# Altium footprint library RD3399-20181026.PcbLib: 57 footprints (part 3 of 4)
Each footprint in its own frame and in the unit in brackets; x right, y up, seen from the top. Pads: shape width x height; smd on the part's side, far side on the other; paste and mask are expansions set on the pad; w line width, h text height; cw(c..) or ccw(c..) is an arc to the next point about the centre after c.
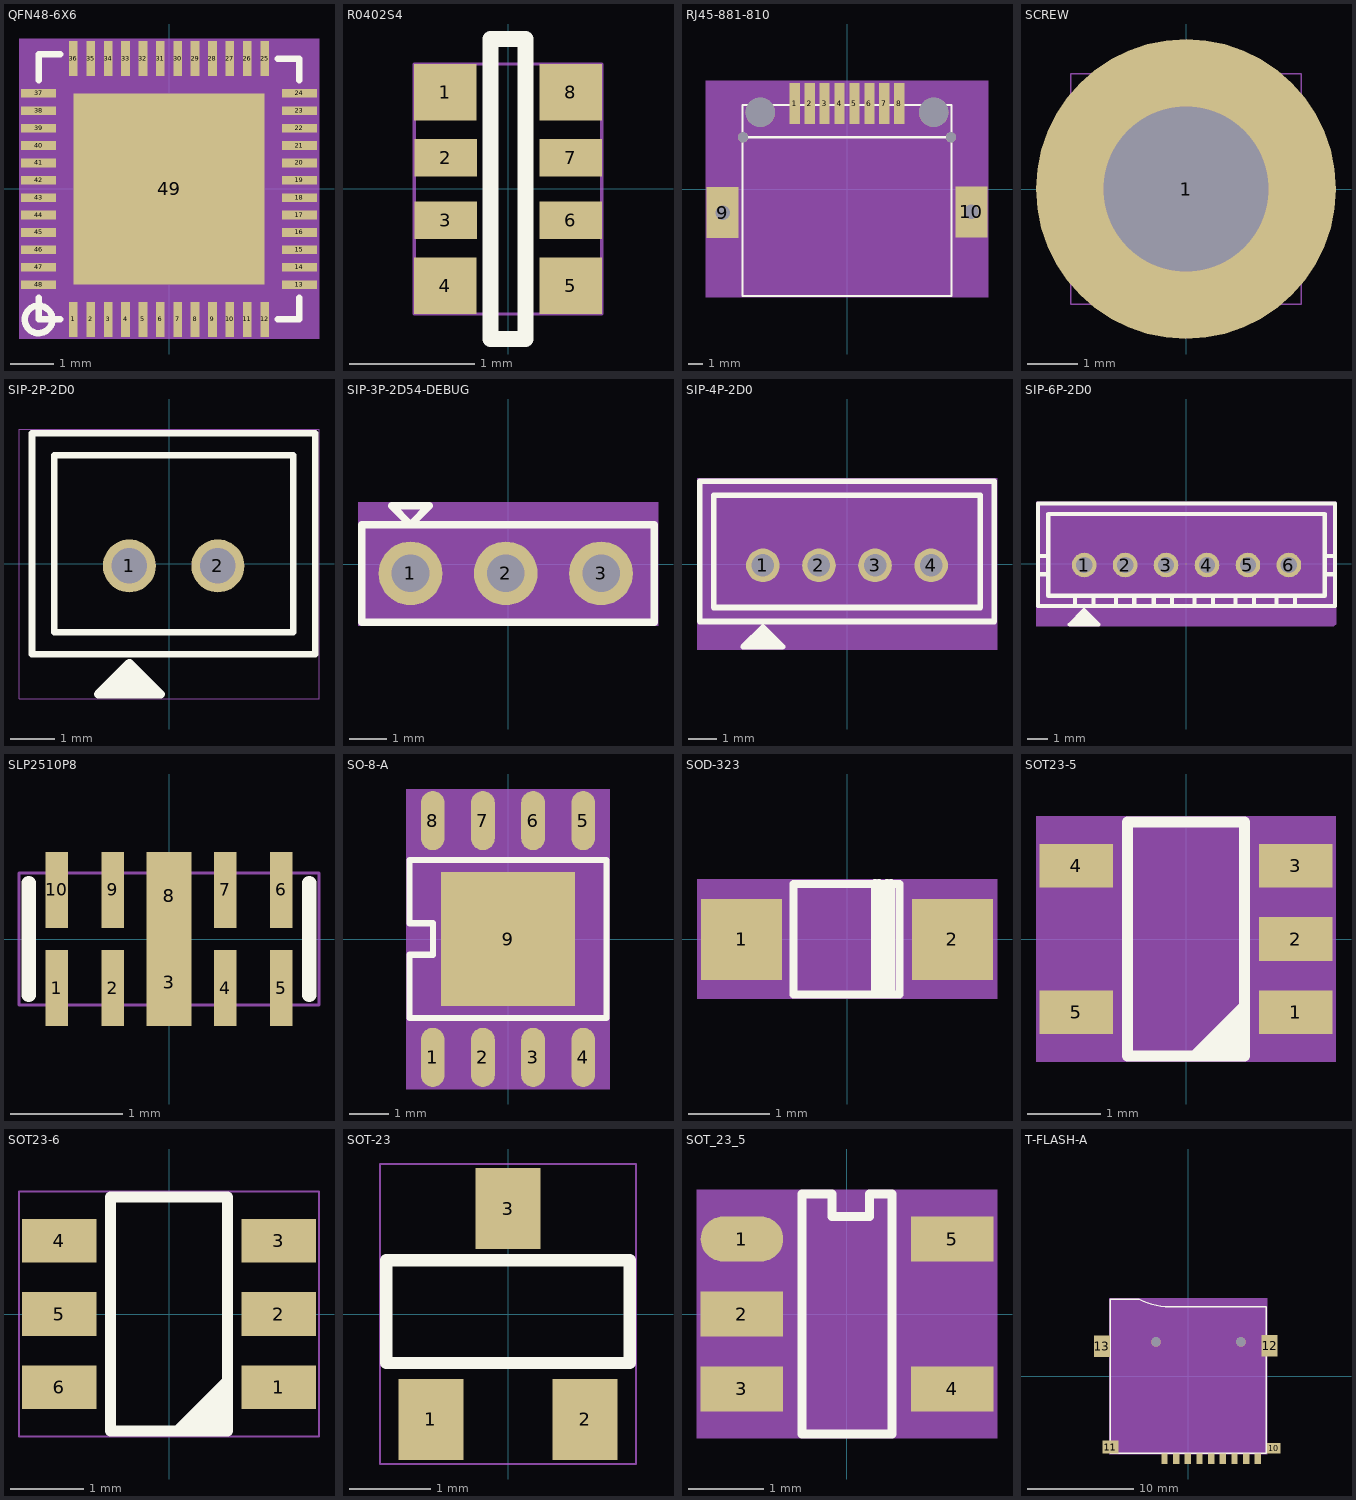
[diagram p2: the footprints below, top view; thin cyan lines are the x and y axes]

## QFN48-6X6 [mm] "QFN48-6X6"
pads (49):
  rect 0.2x0.8 smd: 1(-2.2,-3) 2(-1.8,-3) 3(-1.4,-3) 4(-1,-3) 5(-0.6,-3) 6(-0.2,-3) 7(0.2,-3) 8(0.6,-3) 9(1,-3) 10(1.4,-3) 11(1.8,-3) 12(2.2,-3) 25(2.2,3) 26(1.8,3) 27(1.4,3) 28(1,3) 29(0.6,3) 30(0.2,3) 31(-0.2,3) 32(-0.6,3) 33(-1,3) 34(-1.4,3) 35(-1.8,3) 36(-2.2,3)
  rect 0.8x0.2 smd: 13(3,-2.2) 14(3,-1.8) 15(3,-1.4) 16(3,-1) 17(3,-0.6) 18(3,-0.2) 19(3,0.2) 20(3,0.6) 21(3,1) 22(3,1.4) 23(3,1.8) 24(3,2.2) 37(-3,2.2) 38(-3,1.8) 39(-3,1.4) 40(-3,1) 41(-3,0.6) 42(-3,0.2) 43(-3,-0.2) 44(-3,-0.6) 45(-3,-1) 46(-3,-1.4) 47(-3,-1.8) 48(-3,-2.2)
  rect 4.4x4.4 smd: 49(0,0)
Top Overlay:
  circle w0.15: c-3,-3 r0.316
  lines w0.15: -3,-2.5 -3,-3 -2.5,-3 ; -3,2.5 -3,3.1 -2.5,3.1 ; 2.5,-3 3,-3 3,-2.5 ; 2.5,3 3,3 3,2.5
  text ".Designator" at 4.1,0.975 h0.8
Mechanical 7:
  text "47" at -2.492,-1.8 h0.64
  text "49" at 0.508,0 h0.64
  text "27" at 1.908,3 h0.64
  text "22" at 3.508,1.4 h0.64
  text "23" at 3.508,1.8 h0.64
  text "31" at 0.308,3 h0.64
  text "30" at 0.708,3 h0.64
  text "24" at 3.508,2.2 h0.64
  text "25" at 2.708,3 h0.64
  text "26" at 2.308,3 h0.64
  text "44" at -2.492,-0.6 h0.64
  text "45" at -2.492,-1 h0.64
  text "41" at -2.492,0.6 h0.64
  text "6" at 0.054,-3 h0.64
  text "15" at 3.508,-1.4 h0.64
  text "21" at 3.508,1 h0.64
  text "37" at -2.492,2.2 h0.64
  text "18" at 3.508,-0.2 h0.64
  text "11" at 2.308,-3 h0.64
  text "1" at -1.946,-3 h0.64
  text "35" at -1.292,3 h0.64
  text "3" at -1.146,-3 h0.64
  text "9" at 1.254,-3 h0.64
  text "36" at -1.692,3 h0.64
  text "28" at 1.508,3 h0.64
  text "40" at -2.492,1 h0.64
  text "17" at 3.508,-0.6 h0.64
  text "7" at 0.454,-3 h0.64
  text "34" at -0.892,3 h0.64
  text "13" at 3.508,-2.2 h0.64
  text "20" at 3.508,0.6 h0.64
  text "42" at -2.492,0.2 h0.64
  text "4" at -0.746,-3 h0.64
  text "10" at 1.908,-3 h0.64
  text "14" at 3.508,-1.8 h0.64
  text "43" at -2.492,-0.2 h0.64
  text "5" at -0.346,-3 h0.64
  text "8" at 0.854,-3 h0.64
  text "19" at 3.508,0.2 h0.64
  text "39" at -2.492,1.4 h0.64
  text "33" at -0.492,3 h0.64
  text "29" at 1.108,3 h0.64
  text "32" at -0.092,3 h0.64
  text "48" at -2.492,-2.2 h0.64
  text "16" at 3.508,-1 h0.64
  text "2" at -1.546,-3 h0.64
  text "38" at -2.492,1.8 h0.64
  text "46" at -2.492,-1.4 h0.64
  text "12" at 2.708,-3 h0.64
Mechanical 8:
  region: -3.45,-3.45 3.45,-3.45 3.45,3.45 -3.45,3.45
Mechanical 9:
  text "RTL8211E-VB-CG" at 0,0 h1.27

## R0402S4 [mm] "R0402S4"
pads (8):
  rect 0.5x0.45 smd: 1(-0.5,0.775) 4(-0.5,-0.775) 5(0.5,-0.775) 8(0.5,0.775)
  rect 0.5x0.3 smd: 2(-0.5,0.25) 3(-0.5,-0.25) 6(0.5,-0.25) 7(0.5,0.25)
Top Overlay:
  lines w0.127: -0.14,-1.2 -0.14,1.2 0.14,1.2 0.14,-1.2 -0.14,-1.2
  text ".Designator" at 2.15,-1.325 h0.8
Mechanical 7:
  text "1" at -0.754,0.775 h0.64
  text "2" at -0.754,0.25 h0.64
  text "3" at -0.754,-0.25 h0.64
  text "4" at -0.754,-0.775 h0.64
  text "7" at 0.246,0.25 h0.64
  text "6" at 0.246,-0.25 h0.64
  text "5" at 0.246,-0.775 h0.64
  text "8" at 0.246,0.775 h0.64
Mechanical 8:
  lines w0.025: -0.75,-1 -0.75,1 0.75,1 0.75,-1 -0.75,-1
Mechanical 9:
  lines w0.025: -0.75,-1 -0.75,1 0.75,1 0.75,-1 -0.75,-1
  text "22R_RN" at 0,0 h1.27

## RJ45-881-810 [mm] "RJ45-881-810"
pads (14):
  rect 0.7x2.8 smd: 1(-3.57,5.838) 2(-2.55,5.838) 3(-1.53,5.838) 4(-0.51,5.838) 5(0.51,5.838) 6(1.53,5.838) 7(2.55,5.838) 8(3.57,5.838)
  rect 2.2x3.5 hole 1: 9(-8.5,-1.612) 10(8.5,-1.562)
  round 0.7 hole 0.7: " "(-7.1,3.538) " "(7.1,3.538)
  round 2 hole 2: " "(-5.925,5.238) " "(5.925,5.238)
Top Overlay:
  lines w0.15: -7,3.538 7,3.538 ; -7.15,-7.312 -7.15,5.738 7.15,5.738 7.15,-7.312 -7.15,-7.312
  text ".Designator" at -7.525,-3.737 h0.8
Mechanical 7:
  text "2" at -2.489,5.838 h0.08
  text "5" at 0.571,5.838 h0.08
  text "6" at 1.591,5.838 h0.08
  text "4" at -0.449,5.838 h0.08
  text "8" at 3.631,5.838 h0.08
  text "10" at 8.622,-1.562 h0.08
  text "9" at -8.439,-1.612 h0.08
  text "3" at -1.469,5.838 h0.08
  text "7" at 2.611,5.838 h0.08
  text "1" at -3.509,5.838 h0.08
Mechanical 8:
  region: -9.65,-7.387 9.65,-7.387 9.65,7.388 -9.65,7.388

## SCREW [mm] "SCREW"
pads (1):
  round 6 hole 3.3: 1(0,0)
Mechanical 7:
  text "1" at -0.064,0 h0.08
Mechanical 8:
  lines w0.025: -2.301,-2.301 -2.301,2.301 2.301,2.301 2.301,-2.301 -2.301,-2.301

## SIP-2P-2D0 [mm] "SIP-2P-2D0"
pads (2):
  round 1.2 hole 0.8: 1(-0.895,-0.042) 2(1.105,-0.042)
Top Overlay:
  lines w0.15: -3.095,-2.043 -3.095,2.957 1.105,2.957 3.305,2.957 3.305,-2.043 -3.095,-2.043 ; -2.595,-1.543 -2.595,2.458 1.105,2.458 2.805,2.458 2.805,-1.543 -2.595,-1.543
  lines w0.2: -1.345,-2.743 -0.445,-2.743 ; -1.195,-2.592 -0.595,-2.592 ; -1.045,-2.442 -0.745,-2.442 ; -1.595,-2.943 -0.195,-2.943 -0.895,-2.242 -1.595,-2.943
  text ".Designator" at -4.295,-3.393 h0.8
Mechanical 7:
  text "2" at 0.851,-0.042 h0.64
  text "1" at -1.149,-0.042 h0.64
Mechanical 8:
  lines w0.025: -3.39,-3.043 -3.39,3.042 3.39,3.042 3.39,-3.043 -3.39,-3.043

## SIP-3P-2D54-DEBUG [mm] "SIP-3P-2D54-DEBUG"
pads (3):
  round 1.7 hole 1: 1(-2.6,-0.25) 2(-0.06,-0.25) 3(2.48,-0.25)
Top Overlay:
  lines w0.2: -3.9,-0.25 -3.9,1.05 3.9,1.05 3.9,-1.55 -3.9,-1.55 -3.9,-0.15 ; -3.1,1.55 -2.1,1.55 -2.6,1.05 -3.1,1.55
  text ".Designator" at 4.225,1.15 h0.8
Mechanical 7:
  text "1" at -2.6,0.004 h0.64
  text "3" at 2.48,0.004 h0.64
  text "2" at -0.06,0.004 h0.64
Mechanical 8:
  region: -4,-1.65 4,-1.65 4,1.65 -4,1.65

## SIP-4P-2D0 [mm] "SIP-4P-2D0"
pads (4):
  round 1.2 hole 0.8: 1(-3,-0.05) 2(-1,-0.05) 3(1,-0.05) 4(3,-0.05)
Top Overlay:
  lines w0.2: -3.45,-2.75 -2.55,-2.75 ; -3.3,-2.6 -2.7,-2.6 ; -3.15,-2.45 -2.85,-2.45 ; -5.25,-2.05 -5.25,2.95 3.25,2.95 5.25,2.95 5.25,-2.05 3.25,-2.05 -5.25,-2.05 ; -4.75,-1.55 -4.75,2.45 2.75,2.45 4.75,2.45 4.75,2.05 4.75,-1.55 2.75,-1.55 -4.75,-1.55 ; -3.7,-2.95 -2.3,-2.95 -3,-2.25 -3.7,-2.95
  text ".Designator" at 0.325,-2.375 h0.8
Mechanical 7:
  text "4" at 3,-0.304 h0.64
  text "1" at -3,-0.304 h0.64
  text "3" at 1,-0.304 h0.64
  text "2" at -1,-0.304 h0.64
Mechanical 8:
  region: -5.35,-3.05 5.35,-3.05 5.35,3.05 -5.35,3.05

## SIP-6P-2D0 [mm] "SIP-6P-2D0"
pads (6):
  round 1.2 hole 0.8: 1(-4.975,-0.05) 2(-2.975,-0.05) 3(-0.975,-0.05) 4(1.025,-0.05) 5(3.025,-0.05) 6(5.025,-0.05)
Top Overlay:
  lines w0.2: -7.225,-0.5 -6.725,-0.5 ; -7.225,0.4 -6.725,0.4 ; -5.425,-2.75 -4.525,-2.75 ; -5.425,-2.05 -5.425,-1.55 ; -5.275,-2.6 -4.675,-2.6 ; -5.125,-2.45 -4.825,-2.45 ; -4.525,-2.05 -4.525,-1.55 ; -3.425,-2.05 -3.425,-1.55 ; -2.525,-2.05 -2.525,-1.55 ; -1.575,-2.05 -1.575,-1.55 ; -0.675,-2.05 -0.675,-1.55 ; 0.425,-2.05 0.425,-1.55 ; 1.325,-2.05 1.325,-1.55 ; 2.425,-2.05 2.425,-1.55 ; 3.325,-2.05 3.325,-1.55 ; 4.425,-2.05 4.425,-1.55 ; 5.325,-2.05 5.325,-1.55 ; 6.775,-0.5 7.275,-0.5 ; 6.775,0.4 7.275,0.4 ; -7.225,-2.05 -7.225,2.95 1.275,2.95 5.275,2.95 7.275,2.95 7.275,-2.05 5.275,-2.05 1.275,-2.05 -7.225,-2.05 ; -6.725,-1.55 -6.725,2.45 0.775,2.45 4.775,2.45 6.775,2.45 6.775,-1.55 4.775,-1.55 0.775,-1.55 -6.725,-1.55 ; -5.675,-2.95 -4.275,-2.95 -4.975,-2.25 -5.675,-2.95
  text ".Designator" at 4.975,-2.525 h0.8
Mechanical 7:
  text "1" at -4.721,-0.05 h0.64
  text "4" at 1.279,-0.05 h0.64
  text "5" at 3.279,-0.05 h0.64
  text "3" at -0.721,-0.05 h0.64
  text "2" at -2.721,-0.05 h0.64
  text "6" at 5.279,-0.05 h0.64
Mechanical 8:
  region: -7.325,-3.05 1.375,-3.05 7.225,-3.05 7.325,-2.95 7.325,3.05 1.375,3.05 -7.325,3.05

## SLP2510P8 [mm] "SLP2510P8"
pads (10):
  rect 0.2x0.675 smd: 1(-1,-0.437) 2(-0.5,-0.437) 4(0.5,-0.437) 5(1,-0.437) 6(1,0.437) 7(0.5,0.437) 9(-0.5,0.437) 10(-1,0.437)
  rect 0.4x0.775 smd: 3(0,-0.388) 8(0,0.388)
Top Overlay:
  lines w0.127: -1.25,-0.5 -1.25,0.5 ; 1.25,-0.5 1.25,0.5
  text ".Designator" at -0.7,1.15 h0.8
Mechanical 7:
  text "3" at -0.254,-0.388 h0.64
  text "8" at -0.254,0.388 h0.64
  text "1" at -1.254,-0.437 h0.64
  text "10" at -1.508,0.437 h0.64
  text "2" at -0.754,-0.437 h0.64
  text "9" at -0.754,0.437 h0.64
  text "4" at 0.246,-0.437 h0.64
  text "7" at 0.246,0.437 h0.64
  text "5" at 0.746,-0.437 h0.64
  text "6" at 0.746,0.437 h0.64
Mechanical 8:
  lines w0.025: -1.338,-0.587 -1.338,0.587 1.338,0.587 1.338,-0.587 -1.338,-0.587
Mechanical 9:
  lines w0.025: -1.338,-0.587 -1.338,0.587 1.338,0.587 1.338,-0.587 -1.338,-0.587

## SO-8-A [mm] "SO-8-A"
pads (9):
  oval 0.599x1.501 smd: 1(-1.905,-3) 2(-0.635,-3) 3(0.635,-3) 4(1.905,-3) 5(1.905,3) 6(0.635,3) 7(-0.635,3) 8(-1.905,3)
  rect 3.4x3.4 smd: 9(0,0)
Top Overlay:
  lines w0.152: -2.499,-1.999 2.499,-1.999 2.499,1.999 -2.499,1.999 -2.499,0.399 -1.9,0.399 -1.9,-0.399 -2.499,-0.399 -2.499,-1.999
  text ".Designator" at -3.6,1.225 h0.7
Mechanical 7:
  text "6" at 0.889,3 h0.64
  text "4" at 2.159,-3 h0.64
  text "9" at -0.762,0 h0.64
  text "8" at -1.651,3 h0.64
  text "3" at 0.889,-3 h0.64
  text "5" at 2.159,3 h0.64
  text "2" at -0.381,-3 h0.64
  text "1" at -1.651,-3 h0.64
  text "7" at -0.381,3 h0.64
Mechanical 8:
  region: -2.576,-3.8 2.576,-3.8 2.576,3.8 -2.576,3.8
Mechanical 9:
  text "MP2482DN" at 0,0 h0.8

## SOD-323 [mm] "SOD-323"
pads (2):
  rect 1.001x1.001 smd: 1(-1.301,-0.005) 2(1.301,-0.005)
Top Overlay:
  lines w0.099: 0.344,-0.683 0.344,0.688 ; 0.394,-0.683 0.394,0.688 ; 0.494,-0.683 0.494,0.688 ; 0.544,-0.683 0.544,0.688 ; -0.658,-0.686 -0.658,0.676 0.645,0.676 0.645,-0.686 -0.658,-0.686
Mechanical 7:
  text "1" at -1.047,-0.005 h0.64
  text "2" at 1.555,-0.005 h0.64
Mechanical 8:
  region: -1.849,-0.737 1.849,-0.737 1.849,0.737 -1.849,0.737
Mechanical 9:
  text ".Designator" at 0.55,0.395 h0.6
  text "IN5819" at -0.8,-0.605 h1.27

## SOT23-5 [mm] "SOT23-5"
pads (5):
  rect 1.001x0.599 smd: 1(1.501,-1.001) 2(1.501,0) 3(1.501,1.001) 4(-1.501,1.001) 5(-1.501,-1.001)
Top Overlay:
  lines w0.152: 0.129,-1.585 0.79,-0.925 ; 0.612,-1.56 0.79,-1.382 ; -0.8,-1.6 -0.8,1.6 0.8,1.6 0.8,-1.6 -0.8,-1.6
  lines w0.203: 0.363,-1.478 0.693,-1.148 ; 0.434,-1.56 0.764,-1.229
  text ".Designator" at -3.075,0.875 h0.7
Mechanical 7:
  text "4" at -1.501,1.255 h0.64
  text "2" at 1.501,0.254 h0.64
  text "3" at 1.501,1.255 h0.64
  text "5" at -1.501,-0.747 h0.64
  text "1" at 1.501,-0.747 h0.64
Mechanical 8:
  region: -2.05,-1.676 2.05,-1.676 2.05,1.676 -2.05,1.676
Mechanical 9:
  text "XC6210B332MR-G" at 0,0 h1.27

## SOT23-6 [mil] "SOT23-6"
pads (6):
  rect 40x23.6 smd: 1(59.1,-39.4) 2(59.1,0) 3(59.1,39.4) 4(-59.1,39.4) 5(-59.1,0) 6(-59.1,-39.4)
Top Overlay:
  lines w6: 5.1,-62.4 31.1,-36.4 ; 24.1,-61.4 31.1,-54.4 ; -31.5,-63 -31.5,63 31.5,63 31.5,-63 -31.5,-63
  lines w8: 14.3,-58.2 27.3,-45.2 ; 17.1,-61.4 30.1,-48.4
  text ".Designator" at 1391.73,-316.93 h31.5
Mechanical 7:
  text "2" at 49.1,0 h25
  text "4" at -69.1,39.4 h25
  text "5" at -69.1,0 h25
  text "3" at 49.1,39.4 h25
  text "1" at 49.1,-39.4 h25
  text "6" at -69.1,-39.4 h25
Mechanical 8:
  lines w1: -80.7,-66 -80.7,66 80.7,66 80.7,-66 -80.7,-66
Mechanical 9:
  text "SY8113B" at 0,0 h31.5

## SOT-23 [mm] "SOT-23"
pads (3):
  rect 0.8x1 smd: 1(-0.95,-1.3) 2(0.95,-1.3) 3(0,1.3)
Top Overlay:
  lines w0.152: -1.5,-0.605 -1.5,0.665 1.5,0.665 1.5,-0.605 -1.5,-0.605
Mechanical 7:
  text "2" at 0.696,-1.3 h0.64
  text "1" at -1.204,-1.3 h0.64
  text "3" at -0.254,1.3 h0.64
Mechanical 8:
  lines w0.025: -1.576,-1.85 -1.576,1.85 1.576,1.85 1.576,-1.85 -1.576,-1.85
Mechanical 9:
  text ".Designator" at -0.446,-0.255 h0.6
  text "2SK3018" at 0,0 h0.8

## SOT_23_5 [mm] "SOT_23_5"
pads (5):
  oval 1.1x0.6 smd: 1(-1.4,1)
  rect 1.1x0.6 smd: 2(-1.4,0) 3(-1.4,-1) 4(1.4,-1) 5(1.4,1)
Top Overlay:
  lines w0.12: -0.6,-1.6 -0.6,1.6 -0.2,1.6 -0.2,1.3 0.3,1.3 0.3,1.6 0.6,1.6 0.6,-1.6 -0.6,-1.6
Mechanical 7:
  text "2" at -1.146,0 h0.64
  text "1" at -1.146,1 h0.64
  text "3" at -1.146,-1 h0.64
  text "5" at 1.654,1 h0.64
  text "4" at 1.654,-1 h0.64
Mechanical 8:
  region: -2,-1.66 2,-1.66 2,1.66 -2,1.66
Mechanical 9:
  text ".Designator" at 0.75,0.4 h0.6
  text "LPW5206" at 0,0.5 h1.27

## T-FLASH-A [mil] "T-FLASH-A"
pads (15):
  rect 23.6x39.4 smd: 1(-88.57,-305.13) 2(-45.27,-305.13) 3(-1.97,-305.13) 4(41.33,-305.13) 5(84.63,-305.13) 6(127.93,-305.13) 7(171.23,-305.13) 8(214.53,-305.13) 9(257.83,-305.13)
  rect 51.2x39.4 smd: 10(316.93,-265.73)
  rect 59.1x47.2 smd: 11(-289.37,-261.83)
  rect 59.1x78.7 smd: 12(301.23,114.19) 13(-320.87,112.17)
  round 35 hole 35: " "(-120.07,127.97) " "(194.93,127.97)
Top Overlay:
  lines w5: -289.37,-285.43 -289.37,285.47 -183.07,285.47 ccw(c-64.75,522.83) -53.17,257.87 289.33,257.87 289.33,-285.43 -289.37,-285.43
Mechanical 7:
  text "10" at 296.93,-265.73 h25
  text "6" at 117.93,-305.13 h25
  text "11" at -309.37,-261.83 h25
  text "1" at -98.57,-305.13 h25
  text "9" at 247.83,-305.13 h25
  text "8" at 204.53,-305.13 h25
  text "3" at -11.97,-305.13 h25
  text "2" at -55.27,-305.13 h25
  text "7" at 161.23,-305.13 h25
  text "5" at 74.63,-305.13 h25
  text "4" at 31.33,-305.13 h25
  text "12" at 281.23,114.19 h25
  text "13" at -340.87,112.17 h25
Mechanical 8:
  region: -293.31,289.37 -293.31,-289.37 293.31,-289.37 293.31,289.37
Mechanical 9:
  text ".Designator" at -89.37,14.57 h23.62